# Altium schematic symbol library FOTA.SchLib: 44 symbols (part 2 of 2)
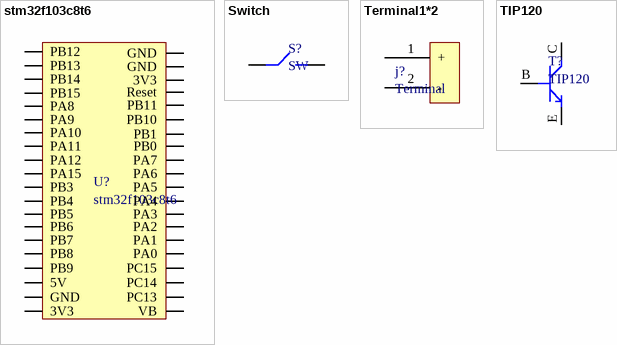
[diagram p2: symbols stm32f103c8t6 to TIP120]

## Terminal1*2
designator j?, comment Terminal
PCB Terminal Screw 5.08mm 16AWG 400V 13.5A 2 Position COMBICON MKKDSN Series; Manufacturer 1: Phoenix Contact; Manufacturer Part Number 1: 1726040; Voltage: 300V; Number of Positions: 2; Number of Contacts: 4; Voltage Rating: 250V; Current: 10A; Test Voltage: 4kV; Wire Gauge (Max): 26AWG; Wire Gauge (Min): 14AWG; Supplier 1: Digi-Key; Stock 1: 1683; Pricing 1: 1=3.83000, 10=3.66900, 50=3.50900, 100=3.41330, 250=3.19000, 500=2.93480, 1000=2.71149, 2500=2.58390 (USD); RoHS: Yes; Mount: Through Hole; Number of Pins: 4; Color: Green; Contact Material: Tin; Housing Color: Green; Housing Material: Polyamide; Weight: 1oz; Min Operating Temperature: -20°C; Max Operating Temperature: 100°C; Package Quantity: 50; Packaging: Bulk; Termination: Solder; Orientation: Straight; Current Rating: 13.5A; Number of Rows: 2; Number of Levels: 2; Number of Positions Per Level: 2; Connector Type: Screw; Series: MKKDSN; Max Current Rating: 13.5A; Max Supply Voltage: 250V; Number of Poles: 4; Number of Circuits: 4; Number of Lines: 2; Length: 12.7mm; Width: 19.1mm; Height: 18.3mm; Pitch: 5.08mm; Depth: 18.3mm; Wire/Cable Gauge: 26AWG; Radiation Hardening: No; Flammability Rating: UL94 V-0; Lead Free: Lead Free; RoHS Compliant: Yes; REACH SVHC: No SVHC; ComponentLink1URL: https://datasheet.ciiva.com/16046/1726040-16046129.pdf?src-supplier=Onlinecomponents.com; ComponentLink1Description: https://datasheet.ciiva.com/16046/1726040-16046129.pdf?src-supplier=Onlinecomponents.com; ComponentLink2URL: https://datasheet.ciiva.com/15169/getdatasheetpartid-178022-15169711.pdf?src-supplier=Verical; ComponentLink2Description: https://datasheet.ciiva.com/15169/getdatasheetpartid-178022-15169711.pdf?src-supplier=Verical; ComponentLink3URL: https://datasheet.ciiva.com/6745/1726040-6745955.pdf?src-supplier=Digi-Key; ComponentLink3Description: https://datasheet.ciiva.com/6745/1726040-6745955.pdf?src-supplier=Digi-Key; ComponentLink4URL: https://datasheet.ciiva.com/1120/100422-1120560.pdf?src-supplier=Farnell; ComponentLink4Description: https://datasheet.ciiva.com/1120/100422-1120560.pdf?src-supplier=Farnell; ComponentLink5URL: https://datasheet.ciiva.com/11758/0900766b8115418e-11758716.pdf?src-supplier=RSComponents; ComponentLink5Description: https://datasheet.ciiva.com/11758/0900766b8115418e-11758716.pdf?src-supplier=RSComponents; ComponentLink6URL: https://datasheet.ciiva.com/26329/743903-da-01-de-printklemmenblock-mkkdsn-1-5-2-5-08-26329166.pdf?src-supplier=Conrad; ComponentLink6Description: https://datasheet.ciiva.com/26329/743903-da-01-de-printklemmenblock-mkkdsn-1-5-2-5-08-26329166.pdf?src-supplier=Conrad; ComponentLink7URL: https://datasheet.ciiva.com/1118/100422-1118548.pdf?src-supplier=Element14; ComponentLink7Description: https://datasheet.ciiva.com/1118/100422-1118548.pdf?src-supplier=Element14; Supplier Part Number 1: 277-6420-ND; Category: Connectors, Interconnects
footprint Terminal
pins: 1 +, 2 -

## TIP120
designator T?
TIP120 Series NPN/PNP 60 V 5 A Complementary Darlington Transistor - TO-220-3; Manufacturer 1: ON Semiconductor / Fairchild; Polarity: NPN; Voltage Rating (DC): 60V; Power Dissipation: 65W; Current Rating: 5A; Emitter Base Voltage (VEBO): 5V; Number of Elements: 1; hFE Min: 1000; Collector Emitter Saturation Voltage: 2V; Element Configuration: Single; Supplier 1: Newark; Manufacturer Part Number 1: TIP120; Stock 1: 0; Pricing 1: 1=0.64800, 10=0.53600, 100=0.35600, 500=0.32400, 1000=0.29100, 2000=0.29100, 2500=0.25000 (USD); RoHS: Yes; Mount: Through Hole; Case/Package: TO-220AB; Number of Pins: 3; Weight: 1.214g; Min Operating Temperature: -65°C; Max Operating Temperature: 150°C; Packaging: Bulk; Package Quantity: 50; Collector Emitter Voltage (VCEO): 60V; Collector Base Voltage (VCBO): 60V; Max Power Dissipation: 65W; Max Collector Current: 5A; Collector Emitter Breakdown Voltage: 60V; Continuous Collector Current: 5A; Max Breakdown Voltage: 60V; Length: 9.9mm; Width: 4.5mm; Height: 9.2mm; Radiation Hardening: No; REACH SVHC: No SVHC; Lead Free: Lead Free; RoHS Compliant: Yes; ComponentLink1URL: https://datasheet.ciiva.com/15139/getdatasheetpartid-72683-15139950.pdf?src-supplier=Verical; ComponentLink1Description: https://datasheet.ciiva.com/15139/getdatasheetpartid-72683-15139950.pdf?src-supplier=Verical; ComponentLink2URL: https://datasheet.ciiva.com/27051/1095911-27051411.pdf?src-supplier=Jameco; ComponentLink2Description: https://datasheet.ciiva.com/27051/1095911-27051411.pdf?src-supplier=Jameco; ComponentLink3URL: https://datasheet.ciiva.com/972/tip122-972302.pdf?src-supplier=Digi-Key; ComponentLink3Description: https://datasheet.ciiva.com/972/tip122-972302.pdf?src-supplier=Digi-Key; ComponentLink4URL: https://datasheet.ciiva.com/985/tip120-d-985500.pdf?src-supplier=Digi-Key; ComponentLink4Description: https://datasheet.ciiva.com/985/tip120-d-985500.pdf?src-supplier=Digi-Key; Supplier Part Number 1: 58K9558; Category: Discrete Semiconductor Products
footprint TIP120
pins: B 1, C 2, E 3